# EAGLE library part NL27WZ08USG (library EVGP_Estop_Motherboard)
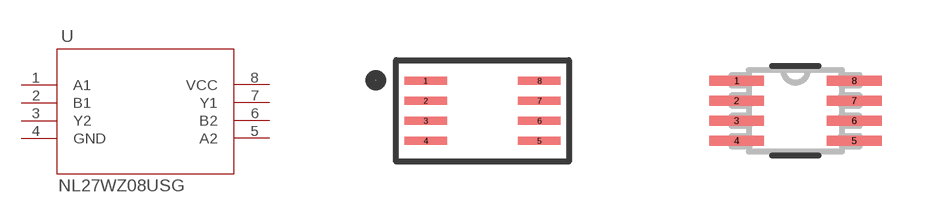
[diagram p1: symbol with the pads of US8_2P40X2P10; footprints US8_2P40X2P10, US8_2P40X2P10-M]

Designator prefix U

## NL27WZ08USG (MANUFACTURER_PART_NUMBER: NL27WZ08USG; VENDOR: ON Semiconductor)  [US8_2P40X2P10]
1  A1  pas
2  B1  pas
3  Y2  pas
4  GND  pas
5  A2  pas
6  B2  pas
7  Y1  pas
8  VCC  pas

## NL27WZ08USGUS8_2P40X2P10-M (MANUFACTURER_PART_NUMBER: NL27WZ08USG; VENDOR: ON Semiconductor)  [US8_2P40X2P10-M]
Pads as for US8_2P40X2P10

## NL27WZ08USGUS8_2P40X2P10-L (MANUFACTURER_PART_NUMBER: NL27WZ08USG; VENDOR: ON Semiconductor)  [US8_2P40X2P10-L]
Pads as for US8_2P40X2P10

## Footprint US8_2P40X2P10 (pad centres in mm)
https://www.digikey.com/product-detail/en/on-semiconductor/NL27WZ08USG/NL27WZ08USGOSTR-ND/661488
smd 1.067 x 0.203: 1 -1.422,0.75; 2 -1.422,0.25; 3 -1.422,-0.25; 4 -1.422,-0.75; 5 1.422,-0.75; 6 1.422,-0.25; 7 1.422,0.25; 8 1.422,0.75

## Footprint US8_2P40X2P10-M (pad centres in mm)
https://www.digikey.com/product-detail/en/on-semiconductor/NL27WZ08USG/NL27WZ08USGOSTR-ND/661488
smd 1.372 x 0.254: 1 -1.473,0.75; 2 -1.473,0.25; 3 -1.473,-0.25; 4 -1.473,-0.75; 5 1.473,-0.75; 6 1.473,-0.25; 7 1.473,0.25; 8 1.473,0.75

## Footprint US8_2P40X2P10-L (pad centres in mm)
https://www.digikey.com/product-detail/en/on-semiconductor/NL27WZ08USG/NL27WZ08USGOSTR-ND/661488
smd 0.762 x 0.152: 1 -1.372,0.75; 2 -1.372,0.25; 3 -1.372,-0.25; 4 -1.372,-0.75; 5 1.372,-0.75; 6 1.372,-0.25; 7 1.372,0.25; 8 1.372,0.75